# Altium footprint library BGA_Sq_150P.PcbLib: 51 footprints (part 7 of 7)
Each footprint in its own frame and in the unit in brackets; x right, y up, seen from the top. Pads: shape width x height; smd on the part's side, far side on the other; paste and mask are expansions set on the pad; w line width, h text height; cw(c..) or ccw(c..) is an arc to the next point about the centre after c.
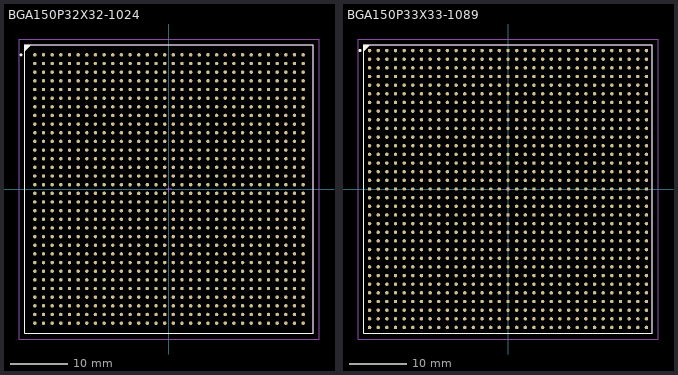
[diagram p6: the footprints below, top view; thin cyan lines are the x and y axes]

## BGA150P32X32-1024 [mm] "BGA, 1024-Leads, Body 50x50mm, Pitch 1.5mm"
height 3.5
pads (1024):
  round 0.6 smd: A1(-23.25,23.25) A2(-21.75,23.25) A3(-20.25,23.25) A4(-18.75,23.25) A5(-17.25,23.25) A6(-15.75,23.25) A7(-14.25,23.25) A8(-12.75,23.25) A9(-11.25,23.25) A10(-9.75,23.25) A11(-8.25,23.25) A12(-6.75,23.25) A13(-5.25,23.25) A14(-3.75,23.25) A15(-2.25,23.25) A16(-0.75,23.25) A17(0.75,23.25) A18(2.25,23.25) A19(3.75,23.25) A20(5.25,23.25) A21(6.75,23.25) A22(8.25,23.25) A23(9.75,23.25) A24(11.25,23.25) A25(12.75,23.25) A26(14.25,23.25) A27(15.75,23.25) A28(17.25,23.25) A29(18.75,23.25) A30(20.25,23.25) A31(21.75,23.25) A32(23.25,23.25) AA1(-23.25,-6.75) AA2(-21.75,-6.75) AA3(-20.25,-6.75) AA4(-18.75,-6.75) AA5(-17.25,-6.75) AA6(-15.75,-6.75) AA7(-14.25,-6.75) AA8(-12.75,-6.75) AA9(-11.25,-6.75) AA10(-9.75,-6.75) AA11(-8.25,-6.75) AA12(-6.75,-6.75) AA13(-5.25,-6.75) AA14(-3.75,-6.75) AA15(-2.25,-6.75) AA16(-0.75,-6.75) AA17(0.75,-6.75) AA18(2.25,-6.75) AA19(3.75,-6.75) AA20(5.25,-6.75) AA21(6.75,-6.75) AA22(8.25,-6.75) AA23(9.75,-6.75) AA24(11.25,-6.75) AA25(12.75,-6.75) AA26(14.25,-6.75) AA27(15.75,-6.75) AA28(17.25,-6.75) AA29(18.75,-6.75) AA30(20.25,-6.75) AA31(21.75,-6.75) AA32(23.25,-6.75) AB1(-23.25,-8.25) AB2(-21.75,-8.25) AB3(-20.25,-8.25) AB4(-18.75,-8.25) AB5(-17.25,-8.25) AB6(-15.75,-8.25) AB7(-14.25,-8.25) AB8(-12.75,-8.25) AB9(-11.25,-8.25) AB10(-9.75,-8.25) AB11(-8.25,-8.25) AB12(-6.75,-8.25) AB13(-5.25,-8.25) AB14(-3.75,-8.25) AB15(-2.25,-8.25) AB16(-0.75,-8.25) AB17(0.75,-8.25) AB18(2.25,-8.25) AB19(3.75,-8.25) AB20(5.25,-8.25) AB21(6.75,-8.25) AB22(8.25,-8.25) AB23(9.75,-8.25) AB24(11.25,-8.25) AB25(12.75,-8.25) AB26(14.25,-8.25) AB27(15.75,-8.25) AB28(17.25,-8.25) AB29(18.75,-8.25) AB30(20.25,-8.25) AB31(21.75,-8.25) AB32(23.25,-8.25) AC1(-23.25,-9.75) AC2(-21.75,-9.75) AC3(-20.25,-9.75) AC4(-18.75,-9.75) AC5(-17.25,-9.75) AC6(-15.75,-9.75) AC7(-14.25,-9.75) AC8(-12.75,-9.75) AC9(-11.25,-9.75) AC10(-9.75,-9.75) AC11(-8.25,-9.75) AC12(-6.75,-9.75) AC13(-5.25,-9.75) AC14(-3.75,-9.75) AC15(-2.25,-9.75) AC16(-0.75,-9.75) AC17(0.75,-9.75) AC18(2.25,-9.75) AC19(3.75,-9.75) AC20(5.25,-9.75) AC21(6.75,-9.75) AC22(8.25,-9.75) AC23(9.75,-9.75) AC24(11.25,-9.75) AC25(12.75,-9.75) AC26(14.25,-9.75) AC27(15.75,-9.75) AC28(17.25,-9.75) AC29(18.75,-9.75) AC30(20.25,-9.75) AC31(21.75,-9.75) AC32(23.25,-9.75) AD1(-23.25,-11.25) AD2(-21.75,-11.25) AD3(-20.25,-11.25) AD4(-18.75,-11.25) AD5(-17.25,-11.25) AD6(-15.75,-11.25) AD7(-14.25,-11.25) AD8(-12.75,-11.25) AD9(-11.25,-11.25) AD10(-9.75,-11.25) AD11(-8.25,-11.25) AD12(-6.75,-11.25) AD13(-5.25,-11.25) AD14(-3.75,-11.25) AD15(-2.25,-11.25) AD16(-0.75,-11.25) AD17(0.75,-11.25) AD18(2.25,-11.25) AD19(3.75,-11.25) AD20(5.25,-11.25) AD21(6.75,-11.25) AD22(8.25,-11.25) AD23(9.75,-11.25) AD24(11.25,-11.25) AD25(12.75,-11.25) AD26(14.25,-11.25) AD27(15.75,-11.25) AD28(17.25,-11.25) AD29(18.75,-11.25) AD30(20.25,-11.25) AD31(21.75,-11.25) AD32(23.25,-11.25) AE1(-23.25,-12.75) AE2(-21.75,-12.75) AE3(-20.25,-12.75) AE4(-18.75,-12.75) AE5(-17.25,-12.75) AE6(-15.75,-12.75) AE7(-14.25,-12.75) AE8(-12.75,-12.75) AE9(-11.25,-12.75) AE10(-9.75,-12.75) AE11(-8.25,-12.75) AE12(-6.75,-12.75) AE13(-5.25,-12.75) AE14(-3.75,-12.75) AE15(-2.25,-12.75) AE16(-0.75,-12.75) AE17(0.75,-12.75) AE18(2.25,-12.75) AE19(3.75,-12.75) AE20(5.25,-12.75) AE21(6.75,-12.75) AE22(8.25,-12.75) AE23(9.75,-12.75) AE24(11.25,-12.75) AE25(12.75,-12.75) AE26(14.25,-12.75) AE27(15.75,-12.75) AE28(17.25,-12.75) AE29(18.75,-12.75) AE30(20.25,-12.75) AE31(21.75,-12.75) AE32(23.25,-12.75) AF1(-23.25,-14.25) AF2(-21.75,-14.25) AF3(-20.25,-14.25) AF4(-18.75,-14.25) AF5(-17.25,-14.25) AF6(-15.75,-14.25) AF7(-14.25,-14.25) AF8(-12.75,-14.25) AF9(-11.25,-14.25) AF10(-9.75,-14.25) AF11(-8.25,-14.25) AF12(-6.75,-14.25) AF13(-5.25,-14.25) AF14(-3.75,-14.25) AF15(-2.25,-14.25) AF16(-0.75,-14.25) AF17(0.75,-14.25) AF18(2.25,-14.25) AF19(3.75,-14.25) AF20(5.25,-14.25) AF21(6.75,-14.25) AF22(8.25,-14.25) AF23(9.75,-14.25) AF24(11.25,-14.25) AF25(12.75,-14.25) AF26(14.25,-14.25) AF27(15.75,-14.25) AF28(17.25,-14.25) AF29(18.75,-14.25) AF30(20.25,-14.25) AF31(21.75,-14.25) AF32(23.25,-14.25) AG1(-23.25,-15.75) AG2(-21.75,-15.75) AG3(-20.25,-15.75) AG4(-18.75,-15.75) AG5(-17.25,-15.75) AG6(-15.75,-15.75) AG7(-14.25,-15.75) AG8(-12.75,-15.75) AG9(-11.25,-15.75) AG10(-9.75,-15.75) AG11(-8.25,-15.75) AG12(-6.75,-15.75) AG13(-5.25,-15.75) AG14(-3.75,-15.75) AG15(-2.25,-15.75) AG16(-0.75,-15.75) AG17(0.75,-15.75) AG18(2.25,-15.75) AG19(3.75,-15.75) AG20(5.25,-15.75) AG21(6.75,-15.75) AG22(8.25,-15.75) AG23(9.75,-15.75) AG24(11.25,-15.75) AG25(12.75,-15.75) AG26(14.25,-15.75) AG27(15.75,-15.75) AG28(17.25,-15.75) AG29(18.75,-15.75) AG30(20.25,-15.75) AG31(21.75,-15.75) AG32(23.25,-15.75) AH1(-23.25,-17.25) AH2(-21.75,-17.25) AH3(-20.25,-17.25) AH4(-18.75,-17.25) AH5(-17.25,-17.25) AH6(-15.75,-17.25) AH7(-14.25,-17.25) AH8(-12.75,-17.25) AH9(-11.25,-17.25) AH10(-9.75,-17.25) AH11(-8.25,-17.25) AH12(-6.75,-17.25) AH13(-5.25,-17.25) AH14(-3.75,-17.25) AH15(-2.25,-17.25) AH16(-0.75,-17.25) AH17(0.75,-17.25) AH18(2.25,-17.25) AH19(3.75,-17.25) AH20(5.25,-17.25) AH21(6.75,-17.25) AH22(8.25,-17.25) AH23(9.75,-17.25) AH24(11.25,-17.25) AH25(12.75,-17.25) AH26(14.25,-17.25) AH27(15.75,-17.25) AH28(17.25,-17.25) AH29(18.75,-17.25) AH30(20.25,-17.25) AH31(21.75,-17.25) AH32(23.25,-17.25) AJ1(-23.25,-18.75) AJ2(-21.75,-18.75) AJ3(-20.25,-18.75) AJ4(-18.75,-18.75) AJ5(-17.25,-18.75) AJ6(-15.75,-18.75) AJ7(-14.25,-18.75) AJ8(-12.75,-18.75) AJ9(-11.25,-18.75) AJ10(-9.75,-18.75) AJ11(-8.25,-18.75) AJ12(-6.75,-18.75) AJ13(-5.25,-18.75) AJ14(-3.75,-18.75) AJ15(-2.25,-18.75) AJ16(-0.75,-18.75) AJ17(0.75,-18.75) AJ18(2.25,-18.75) AJ19(3.75,-18.75) AJ20(5.25,-18.75) AJ21(6.75,-18.75) AJ22(8.25,-18.75) AJ23(9.75,-18.75) AJ24(11.25,-18.75) AJ25(12.75,-18.75) AJ26(14.25,-18.75) AJ27(15.75,-18.75) AJ28(17.25,-18.75) AJ29(18.75,-18.75) AJ30(20.25,-18.75) AJ31(21.75,-18.75) AJ32(23.25,-18.75) AK1(-23.25,-20.25) AK2(-21.75,-20.25) AK3(-20.25,-20.25) AK4(-18.75,-20.25) AK5(-17.25,-20.25) AK6(-15.75,-20.25) AK7(-14.25,-20.25) AK8(-12.75,-20.25) AK9(-11.25,-20.25) AK10(-9.75,-20.25) AK11(-8.25,-20.25) AK12(-6.75,-20.25) AK13(-5.25,-20.25) AK14(-3.75,-20.25) AK15(-2.25,-20.25) AK16(-0.75,-20.25) AK17(0.75,-20.25) AK18(2.25,-20.25) AK19(3.75,-20.25) AK20(5.25,-20.25) AK21(6.75,-20.25) AK22(8.25,-20.25) AK23(9.75,-20.25) AK24(11.25,-20.25) AK25(12.75,-20.25) AK26(14.25,-20.25) AK27(15.75,-20.25) AK28(17.25,-20.25) AK29(18.75,-20.25) AK30(20.25,-20.25) AK31(21.75,-20.25) AK32(23.25,-20.25) AL1(-23.25,-21.75) AL2(-21.75,-21.75) AL3(-20.25,-21.75) AL4(-18.75,-21.75) AL5(-17.25,-21.75) AL6(-15.75,-21.75) AL7(-14.25,-21.75) AL8(-12.75,-21.75) AL9(-11.25,-21.75) AL10(-9.75,-21.75) AL11(-8.25,-21.75) AL12(-6.75,-21.75) AL13(-5.25,-21.75) AL14(-3.75,-21.75) AL15(-2.25,-21.75) AL16(-0.75,-21.75) AL17(0.75,-21.75) AL18(2.25,-21.75) AL19(3.75,-21.75) AL20(5.25,-21.75) AL21(6.75,-21.75) AL22(8.25,-21.75) AL23(9.75,-21.75) AL24(11.25,-21.75) AL25(12.75,-21.75) AL26(14.25,-21.75) AL27(15.75,-21.75) AL28(17.25,-21.75) AL29(18.75,-21.75) AL30(20.25,-21.75) AL31(21.75,-21.75) AL32(23.25,-21.75) AM1(-23.25,-23.25) AM2(-21.75,-23.25) AM3(-20.25,-23.25) AM4(-18.75,-23.25) AM5(-17.25,-23.25) AM6(-15.75,-23.25) AM7(-14.25,-23.25) AM8(-12.75,-23.25) AM9(-11.25,-23.25) AM10(-9.75,-23.25) AM11(-8.25,-23.25) AM12(-6.75,-23.25) AM13(-5.25,-23.25) AM14(-3.75,-23.25) AM15(-2.25,-23.25) AM16(-0.75,-23.25) AM17(0.75,-23.25) AM18(2.25,-23.25) AM19(3.75,-23.25) AM20(5.25,-23.25) AM21(6.75,-23.25) AM22(8.25,-23.25) AM23(9.75,-23.25) AM24(11.25,-23.25) AM25(12.75,-23.25) AM26(14.25,-23.25) AM27(15.75,-23.25) AM28(17.25,-23.25) AM29(18.75,-23.25) AM30(20.25,-23.25) AM31(21.75,-23.25) AM32(23.25,-23.25) B1(-23.25,21.75) B2(-21.75,21.75) B3(-20.25,21.75) B4(-18.75,21.75) B5(-17.25,21.75) B6(-15.75,21.75) B7(-14.25,21.75) B8(-12.75,21.75) B9(-11.25,21.75) B10(-9.75,21.75) B11(-8.25,21.75) B12(-6.75,21.75) B13(-5.25,21.75) B14(-3.75,21.75) B15(-2.25,21.75) B16(-0.75,21.75) B17(0.75,21.75) B18(2.25,21.75) B19(3.75,21.75) B20(5.25,21.75) B21(6.75,21.75) B22(8.25,21.75) B23(9.75,21.75) B24(11.25,21.75) B25(12.75,21.75) B26(14.25,21.75) B27(15.75,21.75) B28(17.25,21.75) B29(18.75,21.75) B30(20.25,21.75) B31(21.75,21.75) B32(23.25,21.75) C1(-23.25,20.25) C2(-21.75,20.25) C3(-20.25,20.25) C4(-18.75,20.25) C5(-17.25,20.25) C6(-15.75,20.25) C7(-14.25,20.25) C8(-12.75,20.25) C9(-11.25,20.25) C10(-9.75,20.25) C11(-8.25,20.25) C12(-6.75,20.25) C13(-5.25,20.25) C14(-3.75,20.25) C15(-2.25,20.25) C16(-0.75,20.25) C17(0.75,20.25) C18(2.25,20.25) C19(3.75,20.25) C20(5.25,20.25) C21(6.75,20.25) C22(8.25,20.25) C23(9.75,20.25) C24(11.25,20.25) C25(12.75,20.25) C26(14.25,20.25) C27(15.75,20.25) C28(17.25,20.25) C29(18.75,20.25) C30(20.25,20.25) C31(21.75,20.25) C32(23.25,20.25) D1(-23.25,18.75) D2(-21.75,18.75) D3(-20.25,18.75) D4(-18.75,18.75) D5(-17.25,18.75) D6(-15.75,18.75) D7(-14.25,18.75) D8(-12.75,18.75) D9(-11.25,18.75) D10(-9.75,18.75) D11(-8.25,18.75) D12(-6.75,18.75) D13(-5.25,18.75) D14(-3.75,18.75) D15(-2.25,18.75) D16(-0.75,18.75) D17(0.75,18.75) D18(2.25,18.75) D19(3.75,18.75) D20(5.25,18.75) D21(6.75,18.75) D22(8.25,18.75) D23(9.75,18.75) D24(11.25,18.75) D25(12.75,18.75) D26(14.25,18.75) D27(15.75,18.75) D28(17.25,18.75) D29(18.75,18.75) D30(20.25,18.75) D31(21.75,18.75) D32(23.25,18.75) E1(-23.25,17.25) E2(-21.75,17.25) E3(-20.25,17.25) E4(-18.75,17.25) E5(-17.25,17.25) E6(-15.75,17.25) E7(-14.25,17.25) E8(-12.75,17.25) E9(-11.25,17.25) E10(-9.75,17.25) E11(-8.25,17.25) E12(-6.75,17.25) E13(-5.25,17.25) E14(-3.75,17.25) E15(-2.25,17.25) E16(-0.75,17.25) E17(0.75,17.25) E18(2.25,17.25) E19(3.75,17.25) E20(5.25,17.25) E21(6.75,17.25) E22(8.25,17.25) E23(9.75,17.25) E24(11.25,17.25) E25(12.75,17.25) E26(14.25,17.25) E27(15.75,17.25) E28(17.25,17.25) E29(18.75,17.25) E30(20.25,17.25) E31(21.75,17.25) E32(23.25,17.25) F1(-23.25,15.75) F2(-21.75,15.75) F3(-20.25,15.75) F4(-18.75,15.75) F5(-17.25,15.75) F6(-15.75,15.75) F7(-14.25,15.75) F8(-12.75,15.75) F9(-11.25,15.75) F10(-9.75,15.75) F11(-8.25,15.75) F12(-6.75,15.75) F13(-5.25,15.75) F14(-3.75,15.75) F15(-2.25,15.75) F16(-0.75,15.75) F17(0.75,15.75) F18(2.25,15.75) F19(3.75,15.75) F20(5.25,15.75) F21(6.75,15.75) F22(8.25,15.75) F23(9.75,15.75) F24(11.25,15.75) F25(12.75,15.75) F26(14.25,15.75) F27(15.75,15.75) F28(17.25,15.75) F29(18.75,15.75) F30(20.25,15.75) F31(21.75,15.75) F32(23.25,15.75) G1(-23.25,14.25) G2(-21.75,14.25) G3(-20.25,14.25) G4(-18.75,14.25) G5(-17.25,14.25) G6(-15.75,14.25) G7(-14.25,14.25) G8(-12.75,14.25) G9(-11.25,14.25) G10(-9.75,14.25) G11(-8.25,14.25) G12(-6.75,14.25) G13(-5.25,14.25) G14(-3.75,14.25) G15(-2.25,14.25) G16(-0.75,14.25) G17(0.75,14.25) G18(2.25,14.25) G19(3.75,14.25) G20(5.25,14.25) G21(6.75,14.25) G22(8.25,14.25) G23(9.75,14.25) G24(11.25,14.25) G25(12.75,14.25) G26(14.25,14.25) G27(15.75,14.25) G28(17.25,14.25) G29(18.75,14.25) G30(20.25,14.25) G31(21.75,14.25) G32(23.25,14.25) H1(-23.25,12.75) H2(-21.75,12.75) H3(-20.25,12.75) H4(-18.75,12.75) H5(-17.25,12.75) H6(-15.75,12.75) H7(-14.25,12.75) H8(-12.75,12.75) H9(-11.25,12.75) H10(-9.75,12.75) H11(-8.25,12.75) H12(-6.75,12.75) H13(-5.25,12.75) H14(-3.75,12.75) H15(-2.25,12.75) H16(-0.75,12.75) H17(0.75,12.75) H18(2.25,12.75) H19(3.75,12.75) H20(5.25,12.75) H21(6.75,12.75) H22(8.25,12.75) H23(9.75,12.75) H24(11.25,12.75) H25(12.75,12.75) H26(14.25,12.75) H27(15.75,12.75) H28(17.25,12.75) H29(18.75,12.75) H30(20.25,12.75) H31(21.75,12.75) H32(23.25,12.75) J1(-23.25,11.25) J2(-21.75,11.25) J3(-20.25,11.25) J4(-18.75,11.25) J5(-17.25,11.25) J6(-15.75,11.25) J7(-14.25,11.25) J8(-12.75,11.25) J9(-11.25,11.25) J10(-9.75,11.25) J11(-8.25,11.25) J12(-6.75,11.25) J13(-5.25,11.25) J14(-3.75,11.25) J15(-2.25,11.25) J16(-0.75,11.25) J17(0.75,11.25) J18(2.25,11.25) J19(3.75,11.25) J20(5.25,11.25) J21(6.75,11.25) J22(8.25,11.25) J23(9.75,11.25) J24(11.25,11.25) J25(12.75,11.25) J26(14.25,11.25) J27(15.75,11.25) J28(17.25,11.25) J29(18.75,11.25) J30(20.25,11.25) J31(21.75,11.25) J32(23.25,11.25) K1(-23.25,9.75) K2(-21.75,9.75) K3(-20.25,9.75) K4(-18.75,9.75) K5(-17.25,9.75) K6(-15.75,9.75) K7(-14.25,9.75) K8(-12.75,9.75) K9(-11.25,9.75) K10(-9.75,9.75) K11(-8.25,9.75) K12(-6.75,9.75) K13(-5.25,9.75) K14(-3.75,9.75) K15(-2.25,9.75) K16(-0.75,9.75) K17(0.75,9.75) K18(2.25,9.75) K19(3.75,9.75) K20(5.25,9.75) K21(6.75,9.75) K22(8.25,9.75) K23(9.75,9.75) K24(11.25,9.75) K25(12.75,9.75) K26(14.25,9.75) K27(15.75,9.75) K28(17.25,9.75) K29(18.75,9.75) K30(20.25,9.75) K31(21.75,9.75) K32(23.25,9.75) L1(-23.25,8.25) L2(-21.75,8.25) L3(-20.25,8.25) L4(-18.75,8.25) L5(-17.25,8.25) L6(-15.75,8.25) L7(-14.25,8.25) L8(-12.75,8.25) L9(-11.25,8.25) L10(-9.75,8.25) L11(-8.25,8.25) L12(-6.75,8.25) L13(-5.25,8.25) L14(-3.75,8.25) L15(-2.25,8.25) L16(-0.75,8.25) L17(0.75,8.25) L18(2.25,8.25) L19(3.75,8.25) L20(5.25,8.25) L21(6.75,8.25) L22(8.25,8.25) L23(9.75,8.25) L24(11.25,8.25) L25(12.75,8.25) L26(14.25,8.25) L27(15.75,8.25) L28(17.25,8.25) L29(18.75,8.25) L30(20.25,8.25) L31(21.75,8.25) L32(23.25,8.25) M1(-23.25,6.75) M2(-21.75,6.75) M3(-20.25,6.75) M4(-18.75,6.75) M5(-17.25,6.75) M6(-15.75,6.75) M7(-14.25,6.75) M8(-12.75,6.75) M9(-11.25,6.75) M10(-9.75,6.75) M11(-8.25,6.75) M12(-6.75,6.75) M13(-5.25,6.75) M14(-3.75,6.75) M15(-2.25,6.75) M16(-0.75,6.75) M17(0.75,6.75) M18(2.25,6.75) M19(3.75,6.75) M20(5.25,6.75) M21(6.75,6.75) M22(8.25,6.75) M23(9.75,6.75) M24(11.25,6.75) M25(12.75,6.75) M26(14.25,6.75) M27(15.75,6.75) M28(17.25,6.75) M29(18.75,6.75) M30(20.25,6.75) M31(21.75,6.75) M32(23.25,6.75) N1(-23.25,5.25) N2(-21.75,5.25) N3(-20.25,5.25) N4(-18.75,5.25) N5(-17.25,5.25) N6(-15.75,5.25) N7(-14.25,5.25) N8(-12.75,5.25) N9(-11.25,5.25) N10(-9.75,5.25) N11(-8.25,5.25) N12(-6.75,5.25) N13(-5.25,5.25) N14(-3.75,5.25) N15(-2.25,5.25) N16(-0.75,5.25) N17(0.75,5.25) N18(2.25,5.25) N19(3.75,5.25) N20(5.25,5.25) N21(6.75,5.25) N22(8.25,5.25) N23(9.75,5.25) N24(11.25,5.25) N25(12.75,5.25) N26(14.25,5.25) N27(15.75,5.25) N28(17.25,5.25) N29(18.75,5.25) N30(20.25,5.25) N31(21.75,5.25) N32(23.25,5.25) P1(-23.25,3.75) P2(-21.75,3.75) P3(-20.25,3.75) P4(-18.75,3.75) P5(-17.25,3.75) P6(-15.75,3.75) P7(-14.25,3.75) P8(-12.75,3.75) P9(-11.25,3.75) P10(-9.75,3.75) P11(-8.25,3.75) P12(-6.75,3.75) P13(-5.25,3.75) P14(-3.75,3.75) P15(-2.25,3.75) P16(-0.75,3.75) P17(0.75,3.75) P18(2.25,3.75) P19(3.75,3.75) P20(5.25,3.75) P21(6.75,3.75) P22(8.25,3.75) P23(9.75,3.75) P24(11.25,3.75) P25(12.75,3.75) P26(14.25,3.75) P27(15.75,3.75) P28(17.25,3.75) P29(18.75,3.75) P30(20.25,3.75) P31(21.75,3.75) P32(23.25,3.75) R1(-23.25,2.25) R2(-21.75,2.25) R3(-20.25,2.25) R4(-18.75,2.25) R5(-17.25,2.25) R6(-15.75,2.25) R7(-14.25,2.25) R8(-12.75,2.25) R9(-11.25,2.25) R10(-9.75,2.25) R11(-8.25,2.25) R12(-6.75,2.25) R13(-5.25,2.25) R14(-3.75,2.25) R15(-2.25,2.25) R16(-0.75,2.25) R17(0.75,2.25) R18(2.25,2.25) R19(3.75,2.25) R20(5.25,2.25) R21(6.75,2.25) R22(8.25,2.25) R23(9.75,2.25) R24(11.25,2.25) R25(12.75,2.25) R26(14.25,2.25) R27(15.75,2.25) R28(17.25,2.25) R29(18.75,2.25) R30(20.25,2.25) R31(21.75,2.25) R32(23.25,2.25) T1(-23.25,0.75) T2(-21.75,0.75) T3(-20.25,0.75) T4(-18.75,0.75) T5(-17.25,0.75) T6(-15.75,0.75) T7(-14.25,0.75) T8(-12.75,0.75) T9(-11.25,0.75) T10(-9.75,0.75) T11(-8.25,0.75) T12(-6.75,0.75) T13(-5.25,0.75) T14(-3.75,0.75) T15(-2.25,0.75) T16(-0.75,0.75) T17(0.75,0.75) T18(2.25,0.75) T19(3.75,0.75) T20(5.25,0.75) T21(6.75,0.75) T22(8.25,0.75) T23(9.75,0.75) T24(11.25,0.75) T25(12.75,0.75) T26(14.25,0.75) T27(15.75,0.75) T28(17.25,0.75) T29(18.75,0.75) T30(20.25,0.75) T31(21.75,0.75) T32(23.25,0.75) U1(-23.25,-0.75) U2(-21.75,-0.75) U3(-20.25,-0.75) U4(-18.75,-0.75) U5(-17.25,-0.75) U6(-15.75,-0.75) U7(-14.25,-0.75) U8(-12.75,-0.75) U9(-11.25,-0.75) U10(-9.75,-0.75) U11(-8.25,-0.75) U12(-6.75,-0.75) U13(-5.25,-0.75) U14(-3.75,-0.75) U15(-2.25,-0.75) U16(-0.75,-0.75) U17(0.75,-0.75) U18(2.25,-0.75) U19(3.75,-0.75) U20(5.25,-0.75) U21(6.75,-0.75) U22(8.25,-0.75) U23(9.75,-0.75) U24(11.25,-0.75) U25(12.75,-0.75) U26(14.25,-0.75) U27(15.75,-0.75) U28(17.25,-0.75) U29(18.75,-0.75) U30(20.25,-0.75) U31(21.75,-0.75) U32(23.25,-0.75) V1(-23.25,-2.25) V2(-21.75,-2.25) V3(-20.25,-2.25) V4(-18.75,-2.25) V5(-17.25,-2.25) V6(-15.75,-2.25) V7(-14.25,-2.25) V8(-12.75,-2.25) V9(-11.25,-2.25) V10(-9.75,-2.25) V11(-8.25,-2.25) V12(-6.75,-2.25) V13(-5.25,-2.25) V14(-3.75,-2.25) V15(-2.25,-2.25) V16(-0.75,-2.25) V17(0.75,-2.25) V18(2.25,-2.25) V19(3.75,-2.25) V20(5.25,-2.25) V21(6.75,-2.25) V22(8.25,-2.25) V23(9.75,-2.25) V24(11.25,-2.25) V25(12.75,-2.25) V26(14.25,-2.25) V27(15.75,-2.25) V28(17.25,-2.25) V29(18.75,-2.25) V30(20.25,-2.25) V31(21.75,-2.25) V32(23.25,-2.25) W1(-23.25,-3.75) W2(-21.75,-3.75) W3(-20.25,-3.75) W4(-18.75,-3.75) W5(-17.25,-3.75) W6(-15.75,-3.75) W7(-14.25,-3.75) W8(-12.75,-3.75) W9(-11.25,-3.75) W10(-9.75,-3.75) W11(-8.25,-3.75) W12(-6.75,-3.75) W13(-5.25,-3.75) W14(-3.75,-3.75) W15(-2.25,-3.75) W16(-0.75,-3.75) W17(0.75,-3.75) W18(2.25,-3.75) W19(3.75,-3.75) W20(5.25,-3.75) W21(6.75,-3.75) W22(8.25,-3.75) W23(9.75,-3.75) W24(11.25,-3.75) W25(12.75,-3.75) W26(14.25,-3.75) W27(15.75,-3.75) W28(17.25,-3.75) W29(18.75,-3.75) W30(20.25,-3.75) W31(21.75,-3.75) W32(23.25,-3.75) Y1(-23.25,-5.25) Y2(-21.75,-5.25) Y3(-20.25,-5.25) Y4(-18.75,-5.25) Y5(-17.25,-5.25) Y6(-15.75,-5.25) Y7(-14.25,-5.25) Y8(-12.75,-5.25) Y9(-11.25,-5.25) Y10(-9.75,-5.25) Y11(-8.25,-5.25) Y12(-6.75,-5.25) Y13(-5.25,-5.25) Y14(-3.75,-5.25) Y15(-2.25,-5.25) Y16(-0.75,-5.25) Y17(0.75,-5.25) Y18(2.25,-5.25) Y19(3.75,-5.25) Y20(5.25,-5.25) Y21(6.75,-5.25) Y22(8.25,-5.25) Y23(9.75,-5.25) Y24(11.25,-5.25) Y25(12.75,-5.25) Y26(14.25,-5.25) Y27(15.75,-5.25) Y28(17.25,-5.25) Y29(18.75,-5.25) Y30(20.25,-5.25) Y31(21.75,-5.25) Y32(23.25,-5.25)
Top Overlay:
  circle w0.25: c-25.65,23.25 r0.125
  region: -24,25 -25,24 -25,25
  lines w0.2: -25,24 -24,25 ; -25,-25 25,-25 25,25 -25,25 -25,-25
Mechanical 13:
  lines w0.1: -25,-25 25,-25 25,25 -25,25 -25,-25
Mechanical 15:
  lines w0.1: -0.5,0 0.5,0 ; 0,-0.5 0,0.5 ; -26,-26 26,-26 26,26 -26,26 -26,-26
3D body: height 3.5, standoff 0, extent -25,-25 25,25

## BGA150P33X33-1089 [mm] "BGA, 1089-Leads, Body 50x50mm, Pitch 1.5mm"
height 3.5
pads (1089):
  round 0.6 smd: A1(-24,24) A2(-22.5,24) A3(-21,24) A4(-19.5,24) A5(-18,24) A6(-16.5,24) A7(-15,24) A8(-13.5,24) A9(-12,24) A10(-10.5,24) A11(-9,24) A12(-7.5,24) A13(-6,24) A14(-4.5,24) A15(-3,24) A16(-1.5,24) A17(0,24) A18(1.5,24) A19(3,24) A20(4.5,24) A21(6,24) A22(7.5,24) A23(9,24) A24(10.5,24) A25(12,24) A26(13.5,24) A27(15,24) A28(16.5,24) A29(18,24) A30(19.5,24) A31(21,24) A32(22.5,24) A33(24,24) AA1(-24,-6) AA2(-22.5,-6) AA3(-21,-6) AA4(-19.5,-6) AA5(-18,-6) AA6(-16.5,-6) AA7(-15,-6) AA8(-13.5,-6) AA9(-12,-6) AA10(-10.5,-6) AA11(-9,-6) AA12(-7.5,-6) AA13(-6,-6) AA14(-4.5,-6) AA15(-3,-6) AA16(-1.5,-6) AA17(0,-6) AA18(1.5,-6) AA19(3,-6) AA20(4.5,-6) AA21(6,-6) AA22(7.5,-6) AA23(9,-6) AA24(10.5,-6) AA25(12,-6) AA26(13.5,-6) AA27(15,-6) AA28(16.5,-6) AA29(18,-6) AA30(19.5,-6) AA31(21,-6) AA32(22.5,-6) AA33(24,-6) AB1(-24,-7.5) AB2(-22.5,-7.5) AB3(-21,-7.5) AB4(-19.5,-7.5) AB5(-18,-7.5) AB6(-16.5,-7.5) AB7(-15,-7.5) AB8(-13.5,-7.5) AB9(-12,-7.5) AB10(-10.5,-7.5) AB11(-9,-7.5) AB12(-7.5,-7.5) AB13(-6,-7.5) AB14(-4.5,-7.5) AB15(-3,-7.5) AB16(-1.5,-7.5) AB17(0,-7.5) AB18(1.5,-7.5) AB19(3,-7.5) AB20(4.5,-7.5) AB21(6,-7.5) AB22(7.5,-7.5) AB23(9,-7.5) AB24(10.5,-7.5) AB25(12,-7.5) AB26(13.5,-7.5) AB27(15,-7.5) AB28(16.5,-7.5) AB29(18,-7.5) AB30(19.5,-7.5) AB31(21,-7.5) AB32(22.5,-7.5) AB33(24,-7.5) AC1(-24,-9) AC2(-22.5,-9) AC3(-21,-9) AC4(-19.5,-9) AC5(-18,-9) AC6(-16.5,-9) AC7(-15,-9) AC8(-13.5,-9) AC9(-12,-9) AC10(-10.5,-9) AC11(-9,-9) AC12(-7.5,-9) AC13(-6,-9) AC14(-4.5,-9) AC15(-3,-9) AC16(-1.5,-9) AC17(0,-9) AC18(1.5,-9) AC19(3,-9) AC20(4.5,-9) AC21(6,-9) AC22(7.5,-9) AC23(9,-9) AC24(10.5,-9) AC25(12,-9) AC26(13.5,-9) AC27(15,-9) AC28(16.5,-9) AC29(18,-9) AC30(19.5,-9) AC31(21,-9) AC32(22.5,-9) AC33(24,-9) AD1(-24,-10.5) AD2(-22.5,-10.5) AD3(-21,-10.5) AD4(-19.5,-10.5) AD5(-18,-10.5) AD6(-16.5,-10.5) AD7(-15,-10.5) AD8(-13.5,-10.5) AD9(-12,-10.5) AD10(-10.5,-10.5) AD11(-9,-10.5) AD12(-7.5,-10.5) AD13(-6,-10.5) AD14(-4.5,-10.5) AD15(-3,-10.5) AD16(-1.5,-10.5) AD17(0,-10.5) AD18(1.5,-10.5) AD19(3,-10.5) AD20(4.5,-10.5) AD21(6,-10.5) AD22(7.5,-10.5) AD23(9,-10.5) AD24(10.5,-10.5) AD25(12,-10.5) AD26(13.5,-10.5) AD27(15,-10.5) AD28(16.5,-10.5) AD29(18,-10.5) AD30(19.5,-10.5) AD31(21,-10.5) AD32(22.5,-10.5) AD33(24,-10.5) AE1(-24,-12) AE2(-22.5,-12) AE3(-21,-12) AE4(-19.5,-12) AE5(-18,-12) AE6(-16.5,-12) AE7(-15,-12) AE8(-13.5,-12) AE9(-12,-12) AE10(-10.5,-12) AE11(-9,-12) AE12(-7.5,-12) AE13(-6,-12) AE14(-4.5,-12) AE15(-3,-12) AE16(-1.5,-12) AE17(0,-12) AE18(1.5,-12) AE19(3,-12) AE20(4.5,-12) AE21(6,-12) AE22(7.5,-12) AE23(9,-12) AE24(10.5,-12) AE25(12,-12) AE26(13.5,-12) AE27(15,-12) AE28(16.5,-12) AE29(18,-12) AE30(19.5,-12) AE31(21,-12) AE32(22.5,-12) AE33(24,-12) AF1(-24,-13.5) AF2(-22.5,-13.5) AF3(-21,-13.5) AF4(-19.5,-13.5) AF5(-18,-13.5) AF6(-16.5,-13.5) AF7(-15,-13.5) AF8(-13.5,-13.5) AF9(-12,-13.5) AF10(-10.5,-13.5) AF11(-9,-13.5) AF12(-7.5,-13.5) AF13(-6,-13.5) AF14(-4.5,-13.5) AF15(-3,-13.5) AF16(-1.5,-13.5) AF17(0,-13.5) AF18(1.5,-13.5) AF19(3,-13.5) AF20(4.5,-13.5) AF21(6,-13.5) AF22(7.5,-13.5) AF23(9,-13.5) AF24(10.5,-13.5) AF25(12,-13.5) AF26(13.5,-13.5) AF27(15,-13.5) AF28(16.5,-13.5) AF29(18,-13.5) AF30(19.5,-13.5) AF31(21,-13.5) AF32(22.5,-13.5) AF33(24,-13.5) AG1(-24,-15) AG2(-22.5,-15) AG3(-21,-15) AG4(-19.5,-15) AG5(-18,-15) AG6(-16.5,-15) AG7(-15,-15) AG8(-13.5,-15) AG9(-12,-15) AG10(-10.5,-15) AG11(-9,-15) AG12(-7.5,-15) AG13(-6,-15) AG14(-4.5,-15) AG15(-3,-15) AG16(-1.5,-15) AG17(0,-15) AG18(1.5,-15) AG19(3,-15) AG20(4.5,-15) AG21(6,-15) AG22(7.5,-15) AG23(9,-15) AG24(10.5,-15) AG25(12,-15) AG26(13.5,-15) AG27(15,-15) AG28(16.5,-15) AG29(18,-15) AG30(19.5,-15) AG31(21,-15) AG32(22.5,-15) AG33(24,-15) AH1(-24,-16.5) AH2(-22.5,-16.5) AH3(-21,-16.5) AH4(-19.5,-16.5) AH5(-18,-16.5) AH6(-16.5,-16.5) AH7(-15,-16.5) AH8(-13.5,-16.5) AH9(-12,-16.5) AH10(-10.5,-16.5) AH11(-9,-16.5) AH12(-7.5,-16.5) AH13(-6,-16.5) AH14(-4.5,-16.5) AH15(-3,-16.5) AH16(-1.5,-16.5) AH17(0,-16.5) AH18(1.5,-16.5) AH19(3,-16.5) AH20(4.5,-16.5) AH21(6,-16.5) AH22(7.5,-16.5) AH23(9,-16.5) AH24(10.5,-16.5) AH25(12,-16.5) AH26(13.5,-16.5) AH27(15,-16.5) AH28(16.5,-16.5) AH29(18,-16.5) AH30(19.5,-16.5) AH31(21,-16.5) AH32(22.5,-16.5) AH33(24,-16.5) AJ1(-24,-18) AJ2(-22.5,-18) AJ3(-21,-18) AJ4(-19.5,-18) AJ5(-18,-18) AJ6(-16.5,-18) AJ7(-15,-18) AJ8(-13.5,-18) AJ9(-12,-18) AJ10(-10.5,-18) AJ11(-9,-18) AJ12(-7.5,-18) AJ13(-6,-18) AJ14(-4.5,-18) AJ15(-3,-18) AJ16(-1.5,-18) AJ17(0,-18) AJ18(1.5,-18) AJ19(3,-18) AJ20(4.5,-18) AJ21(6,-18) AJ22(7.5,-18) AJ23(9,-18) AJ24(10.5,-18) AJ25(12,-18) AJ26(13.5,-18) AJ27(15,-18) AJ28(16.5,-18) AJ29(18,-18) AJ30(19.5,-18) AJ31(21,-18) AJ32(22.5,-18) AJ33(24,-18) AK1(-24,-19.5) AK2(-22.5,-19.5) AK3(-21,-19.5) AK4(-19.5,-19.5) AK5(-18,-19.5) AK6(-16.5,-19.5) AK7(-15,-19.5) AK8(-13.5,-19.5) AK9(-12,-19.5) AK10(-10.5,-19.5) AK11(-9,-19.5) AK12(-7.5,-19.5) AK13(-6,-19.5) AK14(-4.5,-19.5) AK15(-3,-19.5) AK16(-1.5,-19.5) AK17(0,-19.5) AK18(1.5,-19.5) AK19(3,-19.5) AK20(4.5,-19.5) AK21(6,-19.5) AK22(7.5,-19.5) AK23(9,-19.5) AK24(10.5,-19.5) AK25(12,-19.5) AK26(13.5,-19.5) AK27(15,-19.5) AK28(16.5,-19.5) AK29(18,-19.5) AK30(19.5,-19.5) AK31(21,-19.5) AK32(22.5,-19.5) AK33(24,-19.5) AL1(-24,-21) AL2(-22.5,-21) AL3(-21,-21) AL4(-19.5,-21) AL5(-18,-21) AL6(-16.5,-21) AL7(-15,-21) AL8(-13.5,-21) AL9(-12,-21) AL10(-10.5,-21) AL11(-9,-21) AL12(-7.5,-21) AL13(-6,-21) AL14(-4.5,-21) AL15(-3,-21) AL16(-1.5,-21) AL17(0,-21) AL18(1.5,-21) AL19(3,-21) AL20(4.5,-21) AL21(6,-21) AL22(7.5,-21) AL23(9,-21) AL24(10.5,-21) AL25(12,-21) AL26(13.5,-21) AL27(15,-21) AL28(16.5,-21) AL29(18,-21) AL30(19.5,-21) AL31(21,-21) AL32(22.5,-21) AL33(24,-21) AM1(-24,-22.5) AM2(-22.5,-22.5) AM3(-21,-22.5) AM4(-19.5,-22.5) AM5(-18,-22.5) AM6(-16.5,-22.5) AM7(-15,-22.5) AM8(-13.5,-22.5) AM9(-12,-22.5) AM10(-10.5,-22.5) AM11(-9,-22.5) AM12(-7.5,-22.5) AM13(-6,-22.5) AM14(-4.5,-22.5) AM15(-3,-22.5) AM16(-1.5,-22.5) AM17(0,-22.5) AM18(1.5,-22.5) AM19(3,-22.5) AM20(4.5,-22.5) AM21(6,-22.5) AM22(7.5,-22.5) AM23(9,-22.5) AM24(10.5,-22.5) AM25(12,-22.5) AM26(13.5,-22.5) AM27(15,-22.5) AM28(16.5,-22.5) AM29(18,-22.5) AM30(19.5,-22.5) AM31(21,-22.5) AM32(22.5,-22.5) AM33(24,-22.5) AN1(-24,-24) AN2(-22.5,-24) AN3(-21,-24) AN4(-19.5,-24) AN5(-18,-24) AN6(-16.5,-24) AN7(-15,-24) AN8(-13.5,-24) AN9(-12,-24) AN10(-10.5,-24) AN11(-9,-24) AN12(-7.5,-24) AN13(-6,-24) AN14(-4.5,-24) AN15(-3,-24) AN16(-1.5,-24) AN17(0,-24) AN18(1.5,-24) AN19(3,-24) AN20(4.5,-24) AN21(6,-24) AN22(7.5,-24) AN23(9,-24) AN24(10.5,-24) AN25(12,-24) AN26(13.5,-24) AN27(15,-24) AN28(16.5,-24) AN29(18,-24) AN30(19.5,-24) AN31(21,-24) AN32(22.5,-24) AN33(24,-24) B1(-24,22.5) B2(-22.5,22.5) B3(-21,22.5) B4(-19.5,22.5) B5(-18,22.5) B6(-16.5,22.5) B7(-15,22.5) B8(-13.5,22.5) B9(-12,22.5) B10(-10.5,22.5) B11(-9,22.5) B12(-7.5,22.5) B13(-6,22.5) B14(-4.5,22.5) B15(-3,22.5) B16(-1.5,22.5) B17(0,22.5) B18(1.5,22.5) B19(3,22.5) B20(4.5,22.5) B21(6,22.5) B22(7.5,22.5) B23(9,22.5) B24(10.5,22.5) B25(12,22.5) B26(13.5,22.5) B27(15,22.5) B28(16.5,22.5) B29(18,22.5) B30(19.5,22.5) B31(21,22.5) B32(22.5,22.5) B33(24,22.5) C1(-24,21) C2(-22.5,21) C3(-21,21) C4(-19.5,21) C5(-18,21) C6(-16.5,21) C7(-15,21) C8(-13.5,21) C9(-12,21) C10(-10.5,21) C11(-9,21) C12(-7.5,21) C13(-6,21) C14(-4.5,21) C15(-3,21) C16(-1.5,21) C17(0,21) C18(1.5,21) C19(3,21) C20(4.5,21) C21(6,21) C22(7.5,21) C23(9,21) C24(10.5,21) C25(12,21) C26(13.5,21) C27(15,21) C28(16.5,21) C29(18,21) C30(19.5,21) C31(21,21) C32(22.5,21) C33(24,21) D1(-24,19.5) D2(-22.5,19.5) D3(-21,19.5) D4(-19.5,19.5) D5(-18,19.5) D6(-16.5,19.5) D7(-15,19.5) D8(-13.5,19.5) D9(-12,19.5) D10(-10.5,19.5) D11(-9,19.5) D12(-7.5,19.5) D13(-6,19.5) D14(-4.5,19.5) D15(-3,19.5) D16(-1.5,19.5) D17(0,19.5) D18(1.5,19.5) D19(3,19.5) D20(4.5,19.5) D21(6,19.5) D22(7.5,19.5) D23(9,19.5) D24(10.5,19.5) D25(12,19.5) D26(13.5,19.5) D27(15,19.5) D28(16.5,19.5) D29(18,19.5) D30(19.5,19.5) D31(21,19.5) D32(22.5,19.5) D33(24,19.5) E1(-24,18) E2(-22.5,18) E3(-21,18) E4(-19.5,18) E5(-18,18) E6(-16.5,18) E7(-15,18) E8(-13.5,18) E9(-12,18) E10(-10.5,18) E11(-9,18) E12(-7.5,18) E13(-6,18) E14(-4.5,18) E15(-3,18) E16(-1.5,18) E17(0,18) E18(1.5,18) E19(3,18) E20(4.5,18) E21(6,18) E22(7.5,18) E23(9,18) E24(10.5,18) E25(12,18) E26(13.5,18) E27(15,18) E28(16.5,18) E29(18,18) E30(19.5,18) E31(21,18) E32(22.5,18) E33(24,18) F1(-24,16.5) F2(-22.5,16.5) F3(-21,16.5) F4(-19.5,16.5) F5(-18,16.5) F6(-16.5,16.5) F7(-15,16.5) F8(-13.5,16.5) F9(-12,16.5) F10(-10.5,16.5) F11(-9,16.5) F12(-7.5,16.5) F13(-6,16.5) F14(-4.5,16.5) F15(-3,16.5) F16(-1.5,16.5) F17(0,16.5) F18(1.5,16.5) F19(3,16.5) F20(4.5,16.5) F21(6,16.5) F22(7.5,16.5) F23(9,16.5) F24(10.5,16.5) F25(12,16.5) F26(13.5,16.5) F27(15,16.5) F28(16.5,16.5) F29(18,16.5) F30(19.5,16.5) F31(21,16.5) F32(22.5,16.5) F33(24,16.5) G1(-24,15) G2(-22.5,15) G3(-21,15) G4(-19.5,15) G5(-18,15) G6(-16.5,15) G7(-15,15) G8(-13.5,15) G9(-12,15) G10(-10.5,15) G11(-9,15) G12(-7.5,15) G13(-6,15) G14(-4.5,15) G15(-3,15) G16(-1.5,15) G17(0,15) G18(1.5,15) G19(3,15) G20(4.5,15) G21(6,15) G22(7.5,15) G23(9,15) G24(10.5,15) G25(12,15) G26(13.5,15) G27(15,15) G28(16.5,15) G29(18,15) G30(19.5,15) G31(21,15) G32(22.5,15) G33(24,15) H1(-24,13.5) H2(-22.5,13.5) H3(-21,13.5) H4(-19.5,13.5) H5(-18,13.5) H6(-16.5,13.5) H7(-15,13.5) H8(-13.5,13.5) H9(-12,13.5) H10(-10.5,13.5) H11(-9,13.5) H12(-7.5,13.5) H13(-6,13.5) H14(-4.5,13.5) H15(-3,13.5) H16(-1.5,13.5) H17(0,13.5) H18(1.5,13.5) H19(3,13.5) H20(4.5,13.5) H21(6,13.5) H22(7.5,13.5) H23(9,13.5) H24(10.5,13.5) H25(12,13.5) H26(13.5,13.5) H27(15,13.5) H28(16.5,13.5) H29(18,13.5) H30(19.5,13.5) H31(21,13.5) H32(22.5,13.5) H33(24,13.5) J1(-24,12) J2(-22.5,12) J3(-21,12) J4(-19.5,12) J5(-18,12) J6(-16.5,12) J7(-15,12) J8(-13.5,12) J9(-12,12) J10(-10.5,12) J11(-9,12) J12(-7.5,12) J13(-6,12) J14(-4.5,12) J15(-3,12) J16(-1.5,12) J17(0,12) J18(1.5,12) J19(3,12) J20(4.5,12) J21(6,12) J22(7.5,12) J23(9,12) J24(10.5,12) J25(12,12) J26(13.5,12) J27(15,12) J28(16.5,12) J29(18,12) J30(19.5,12) J31(21,12) J32(22.5,12) J33(24,12) K1(-24,10.5) K2(-22.5,10.5) K3(-21,10.5) K4(-19.5,10.5) K5(-18,10.5) K6(-16.5,10.5) K7(-15,10.5) K8(-13.5,10.5) K9(-12,10.5) K10(-10.5,10.5) K11(-9,10.5) K12(-7.5,10.5) K13(-6,10.5) K14(-4.5,10.5) K15(-3,10.5) K16(-1.5,10.5) K17(0,10.5) K18(1.5,10.5) K19(3,10.5) K20(4.5,10.5) K21(6,10.5) K22(7.5,10.5) K23(9,10.5) K24(10.5,10.5) K25(12,10.5) K26(13.5,10.5) K27(15,10.5) K28(16.5,10.5) K29(18,10.5) K30(19.5,10.5) K31(21,10.5) K32(22.5,10.5) K33(24,10.5) L1(-24,9) L2(-22.5,9) L3(-21,9) L4(-19.5,9) L5(-18,9) L6(-16.5,9) L7(-15,9) L8(-13.5,9) L9(-12,9) L10(-10.5,9) L11(-9,9) L12(-7.5,9) L13(-6,9) L14(-4.5,9) L15(-3,9) L16(-1.5,9) L17(0,9) L18(1.5,9) L19(3,9) L20(4.5,9) L21(6,9) L22(7.5,9) L23(9,9) L24(10.5,9) L25(12,9) L26(13.5,9) L27(15,9) L28(16.5,9) L29(18,9) L30(19.5,9) L31(21,9) L32(22.5,9) L33(24,9) M1(-24,7.5) M2(-22.5,7.5) M3(-21,7.5) M4(-19.5,7.5) M5(-18,7.5) M6(-16.5,7.5) M7(-15,7.5) M8(-13.5,7.5) M9(-12,7.5) M10(-10.5,7.5) M11(-9,7.5) M12(-7.5,7.5) M13(-6,7.5) M14(-4.5,7.5) M15(-3,7.5) M16(-1.5,7.5) M17(0,7.5) M18(1.5,7.5) M19(3,7.5) M20(4.5,7.5) M21(6,7.5) M22(7.5,7.5) M23(9,7.5) M24(10.5,7.5) M25(12,7.5) M26(13.5,7.5) M27(15,7.5) M28(16.5,7.5) M29(18,7.5) M30(19.5,7.5) M31(21,7.5) M32(22.5,7.5) M33(24,7.5) N1(-24,6) N2(-22.5,6) N3(-21,6) N4(-19.5,6) N5(-18,6) N6(-16.5,6) N7(-15,6) N8(-13.5,6) N9(-12,6) N10(-10.5,6) N11(-9,6) N12(-7.5,6) N13(-6,6) N14(-4.5,6) N15(-3,6) N16(-1.5,6) N17(0,6) N18(1.5,6) N19(3,6) N20(4.5,6) N21(6,6) N22(7.5,6) N23(9,6) N24(10.5,6) N25(12,6) N26(13.5,6) N27(15,6) N28(16.5,6) N29(18,6) N30(19.5,6) N31(21,6) N32(22.5,6) N33(24,6) P1(-24,4.5) P2(-22.5,4.5) P3(-21,4.5) P4(-19.5,4.5) P5(-18,4.5) P6(-16.5,4.5) P7(-15,4.5) P8(-13.5,4.5) P9(-12,4.5) P10(-10.5,4.5) P11(-9,4.5) P12(-7.5,4.5) P13(-6,4.5) P14(-4.5,4.5) P15(-3,4.5) P16(-1.5,4.5) P17(0,4.5) P18(1.5,4.5) P19(3,4.5) P20(4.5,4.5) P21(6,4.5) P22(7.5,4.5) P23(9,4.5) P24(10.5,4.5) P25(12,4.5) P26(13.5,4.5) P27(15,4.5) P28(16.5,4.5) P29(18,4.5) P30(19.5,4.5) P31(21,4.5) P32(22.5,4.5) P33(24,4.5) R1(-24,3) R2(-22.5,3) R3(-21,3) R4(-19.5,3) R5(-18,3) R6(-16.5,3) R7(-15,3) R8(-13.5,3) R9(-12,3) R10(-10.5,3) R11(-9,3) R12(-7.5,3) R13(-6,3) R14(-4.5,3) R15(-3,3) R16(-1.5,3) R17(0,3) R18(1.5,3) R19(3,3) R20(4.5,3) R21(6,3) R22(7.5,3) R23(9,3) R24(10.5,3) R25(12,3) R26(13.5,3) R27(15,3) R28(16.5,3) R29(18,3) R30(19.5,3) R31(21,3) R32(22.5,3) R33(24,3) T1(-24,1.5) T2(-22.5,1.5) T3(-21,1.5) T4(-19.5,1.5) T5(-18,1.5) T6(-16.5,1.5) T7(-15,1.5) T8(-13.5,1.5) T9(-12,1.5) T10(-10.5,1.5) T11(-9,1.5) T12(-7.5,1.5) T13(-6,1.5) T14(-4.5,1.5) T15(-3,1.5) T16(-1.5,1.5) T17(0,1.5) T18(1.5,1.5) T19(3,1.5) T20(4.5,1.5) T21(6,1.5) T22(7.5,1.5) T23(9,1.5) T24(10.5,1.5) T25(12,1.5) T26(13.5,1.5) T27(15,1.5) T28(16.5,1.5) T29(18,1.5) T30(19.5,1.5) T31(21,1.5) T32(22.5,1.5) T33(24,1.5) U1(-24,0) U2(-22.5,0) U3(-21,0) U4(-19.5,0) U5(-18,0) U6(-16.5,0) U7(-15,0) U8(-13.5,0) U9(-12,0) U10(-10.5,0) U11(-9,0) U12(-7.5,0) U13(-6,0) U14(-4.5,0) U15(-3,0) U16(-1.5,0) U17(0,0) U18(1.5,0) U19(3,0) U20(4.5,0) U21(6,0) U22(7.5,0) U23(9,0) U24(10.5,0) U25(12,0) U26(13.5,0) U27(15,0) U28(16.5,0) U29(18,0) U30(19.5,0) U31(21,0) U32(22.5,0) U33(24,0) V1(-24,-1.5) V2(-22.5,-1.5) V3(-21,-1.5) V4(-19.5,-1.5) V5(-18,-1.5) V6(-16.5,-1.5) V7(-15,-1.5) V8(-13.5,-1.5) V9(-12,-1.5) V10(-10.5,-1.5) V11(-9,-1.5) V12(-7.5,-1.5) V13(-6,-1.5) V14(-4.5,-1.5) V15(-3,-1.5) V16(-1.5,-1.5) V17(0,-1.5) V18(1.5,-1.5) V19(3,-1.5) V20(4.5,-1.5) V21(6,-1.5) V22(7.5,-1.5) V23(9,-1.5) V24(10.5,-1.5) V25(12,-1.5) V26(13.5,-1.5) V27(15,-1.5) V28(16.5,-1.5) V29(18,-1.5) V30(19.5,-1.5) V31(21,-1.5) V32(22.5,-1.5) V33(24,-1.5) W1(-24,-3) W2(-22.5,-3) W3(-21,-3) W4(-19.5,-3) W5(-18,-3) W6(-16.5,-3) W7(-15,-3) W8(-13.5,-3) W9(-12,-3) W10(-10.5,-3) W11(-9,-3) W12(-7.5,-3) W13(-6,-3) W14(-4.5,-3) W15(-3,-3) W16(-1.5,-3) W17(0,-3) W18(1.5,-3) W19(3,-3) W20(4.5,-3) W21(6,-3) W22(7.5,-3) W23(9,-3) W24(10.5,-3) W25(12,-3) W26(13.5,-3) W27(15,-3) W28(16.5,-3) W29(18,-3) W30(19.5,-3) W31(21,-3) W32(22.5,-3) W33(24,-3) Y1(-24,-4.5) Y2(-22.5,-4.5) Y3(-21,-4.5) Y4(-19.5,-4.5) Y5(-18,-4.5) Y6(-16.5,-4.5) Y7(-15,-4.5) Y8(-13.5,-4.5) Y9(-12,-4.5) Y10(-10.5,-4.5) Y11(-9,-4.5) Y12(-7.5,-4.5) Y13(-6,-4.5) Y14(-4.5,-4.5) Y15(-3,-4.5) Y16(-1.5,-4.5) Y17(0,-4.5) Y18(1.5,-4.5) Y19(3,-4.5) Y20(4.5,-4.5) Y21(6,-4.5) Y22(7.5,-4.5) Y23(9,-4.5) Y24(10.5,-4.5) Y25(12,-4.5) Y26(13.5,-4.5) Y27(15,-4.5) Y28(16.5,-4.5) Y29(18,-4.5) Y30(19.5,-4.5) Y31(21,-4.5) Y32(22.5,-4.5) Y33(24,-4.5)
Top Overlay:
  circle w0.25: c-25.65,24 r0.125
  region: -24,25 -25,24 -25,25
  lines w0.2: -25,24 -24,25 ; -25,-25 25,-25 25,25 -25,25 -25,-25
Mechanical 13:
  lines w0.1: -25,-25 25,-25 25,25 -25,25 -25,-25
Mechanical 15:
  lines w0.1: -0.5,0 0.5,0 ; 0,-0.5 0,0.5 ; -26,-26 26,-26 26,26 -26,26 -26,-26
3D body: height 3.5, standoff 0, extent -25,-25 25,25